# Altium schematic symbol library cpld.SchLib: 3 symbols
Pins are listed as number, name and electrical type; pins without a type are passive.

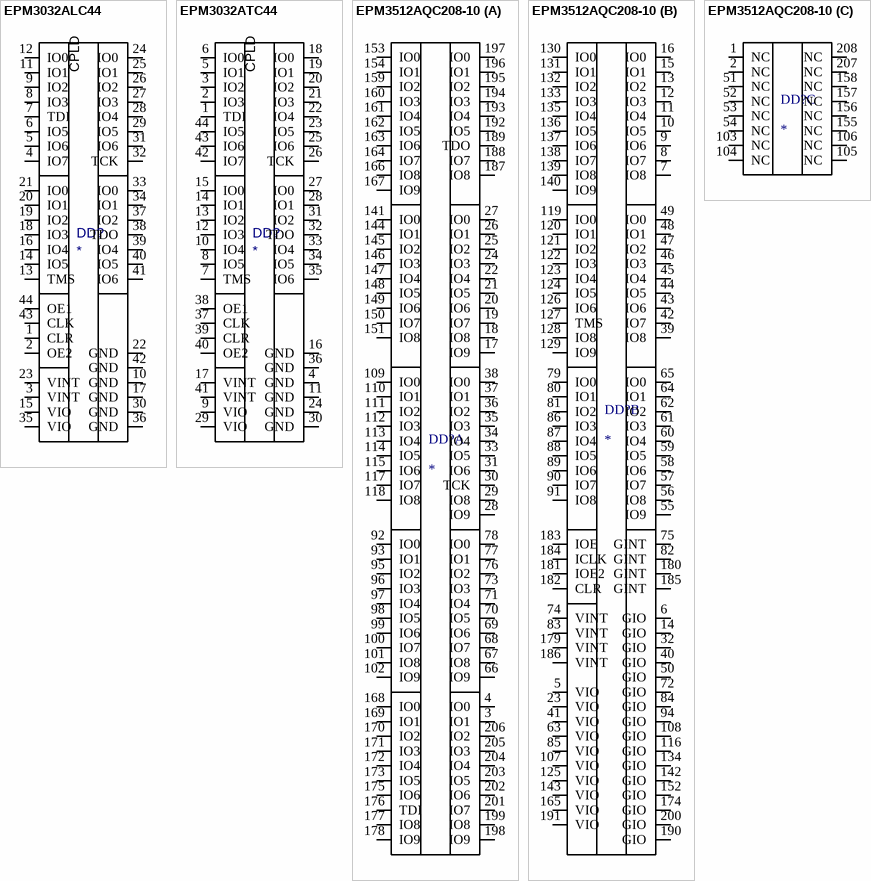
[diagram p0: symbols EPM3032ALC44 to EPM3512AQC208-10]

## EPM3032ALC44
designator DD?
44-Pin PLCC44
footprint PLCC-44-R
pins: 1 CLR, 2 OE2, 3 VINT, 4 IO7, 5 IO6, 6 IO5, 7 TDI, 8 IO3, 9 IO2, 10 GND, 11 IO1, 12 IO0, 13 TMS, 14 IO5, 15 VIO, 16 IO4, 17 GND, 18 IO3, 19 IO2, 20 IO1, 21 IO0, 22 GND, 23 VINT, 24 IO0, 25 IO1, 26 IO2, 27 IO3, 28 IO4, 29 IO5, 30 GND, 31 IO6, 32 TCK, 33 IO0, 34 IO1, 35 VIO, 36 GND, 37 IO2, 38 TDO, 39 IO4, 40 IO5, 41 IO6, 42 GND, 43 CLK, 44 OE1
text: CPLD

## EPM3032ATC44
designator DD?
44-Pin TQFP
footprint QFP80P1200X1200X120-44N
pins: 1 TDI, 2 IO3, 3 IO2, 4 GND, 5 IO1, 6 IO0, 7 TMS, 8 IO5, 9 VIO, 10 IO4, 11 GND, 12 IO3, 13 IO2, 14 IO1, 15 IO0, 16 GND, 17 VINT, 18 IO0, 19 IO1, 20 IO2, 21 IO3, 22 IO4, 23 IO5, 24 GND, 25 IO6, 26 TCK, 27 IO0, 28 IO1, 29 VIO, 30 GND, 31 IO2, 32 TDO, 33 IO4, 34 IO5, 35 IO6, 36 GND, 37 CLK, 38 OE1, 39 CLR, 40 OE2, 41 VINT, 42 IO7, 43 IO6, 44 IO5
text: CPLD

## EPM3512AQC208-10
designator DD?
footprint QFP50P3060X3060X409-208N
part A pins: 3 IO1, 4 IO0, 17 IO9, 18 IO8, 19 IO7, 20 IO6, 21 IO5, 22 IO4, 24 IO3, 25 IO2, 26 IO1, 27 IO0, 28 IO9, 29 IO8, 30 TCK, 31 IO6, 33 IO5, 34 IO4, 35 IO3, 36 IO2, 37 IO1, 38 IO0, 66 IO9, 67 IO8, 68 IO7, 69 IO6, 70 IO5, 71 IO4, 73 IO3, 76 IO2, 77 IO1, 78 IO0, 92 IO0, 93 IO1, 95 IO2, 96 IO3, 97 IO4, 98 IO5, 99 IO6, 100 IO7, 101 IO8, 102 IO9, 109 IO0, 110 IO1, 111 IO2, 112 IO3, 113 IO4, 114 IO5, 115 IO6, 117 IO7, 118 IO8, 141 IO0, 144 IO1, 145 IO2, 146 IO3, 147 IO4, 148 IO5, 149 IO6, 150 IO7, 151 IO8, 153 IO0, 154 IO1, 159 IO2, 160 IO3, 161 IO4, 162 IO5, 163 IO6, 164 IO7, 166 IO8, 167 IO9, 168 IO0, 169 IO1, 170 IO2, 171 IO3, 172 IO4, 173 IO5, 175 IO6, 176 TDI, 177 IO8, 178 IO9, 187 IO8, 188 IO7, 189 TDO, 192 IO5, 193 IO4, 194 IO3, 195 IO2, 196 IO1, 197 IO0, 198 IO9, 199 IO8, 201 IO7, 202 IO6, 203 IO5, 204 IO4, 205 IO3, 206 IO2
part B pins: 5 VIO, 6 GIO, 7 IO8, 8 IO7, 9 IO6, 10 IO5, 11 IO4, 12 IO3, 13 IO2, 14 GIO, 15 IO1, 16 IO0, 23 VIO, 32 GIO, 39 IO8, 40 GIO, 41 VIO, 42 IO7, 43 IO6, 44 IO5, 45 IO4, 46 IO3, 47 IO2, 48 IO1, 49 IO0, 50 GIO, 55 IO9, 56 IO8, 57 IO7, 58 IO6, 59 IO5, 60 IO4, 61 IO3, 62 IO2, 63 VIO, 64 IO1, 65 IO0, 72 GIO, 74 VINT, 75 GINT, 79 IO0, 80 IO1, 81 IO2, 82 GINT, 83 VINT, 84 GIO, 85 VIO, 86 IO3, 87 IO4, 88 IO5, 89 IO6, 90 IO7, 91 IO8, 94 GIO, 107 VIO, 108 GIO, 116 GIO, 119 IO0, 120 IO1, 121 IO2, 122 IO3, 123 IO4, 124 IO5, 125 VIO, 126 IO6, 127 TMS, 128 IO8, 129 IO9, 130 IO0, 131 IO1, 132 IO2, 133 IO3, 134 GIO, 135 IO4, 136 IO5, 137 IO6, 138 IO7, 139 IO8, 140 IO9, 142 GIO, 143 VIO, 152 GIO, 165 VIO, 174 GIO, 179 VINT, 180 GINT, 181 IOE2, 182 CLR, 183 IOE, 184 ICLK, 185 GINT, 186 VINT, 190 GIO, 191 VIO, 200 GIO
part C pins: 1 NC, 2 NC, 51 NC, 52 NC, 53 NC, 54 NC, 103 NC, 104 NC, 105 NC, 106 NC, 155 NC, 156 NC, 157 NC, 158 NC, 207 NC, 208 NC